# Altium integrated library WE-CBF (rev25b).IntLib: 156 symbols (part 2 of 3)
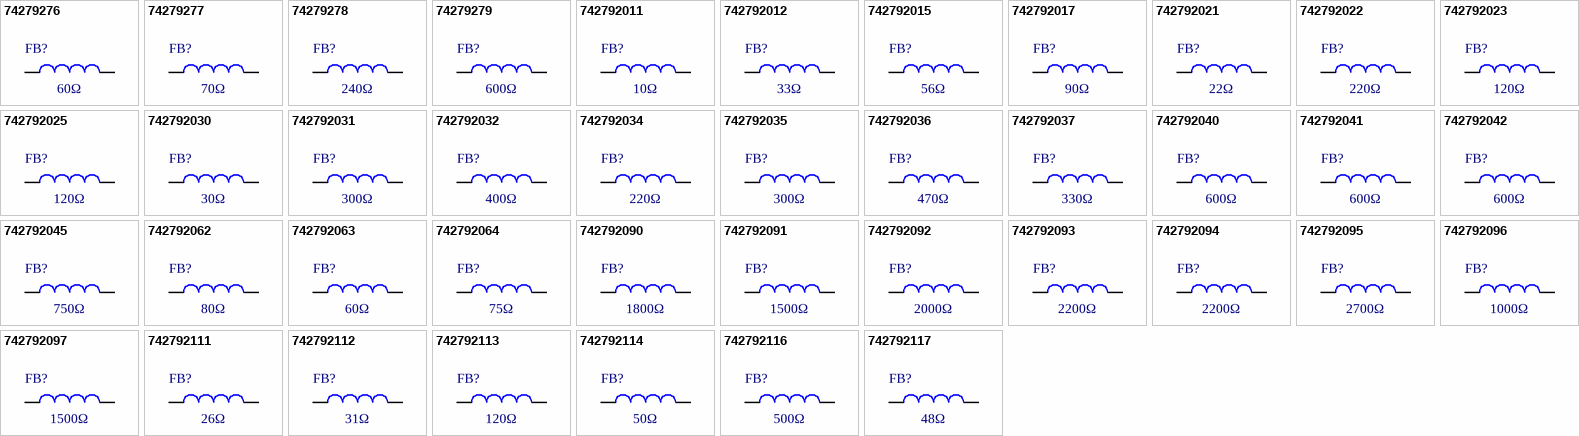
[diagram p4: symbols 74279276 to 742792117]

## 742792035
designator FB?, comment 300Ω
WE-CBF SMT EMI Suppression Ferrite Bead, size 0805, 300Ω, 2.3A; Manufacturer Part Number: 742792035; Manufacturer: Wurth Elektronik; Case/Size Code: 0805; DC Resistance Max: 0.3Ω; Impedance Max: 450Ω; Impedance Max Test Condition: 220MHz; Type: High Speed; Category: Ferrites for PCB Assembly; Match Code: WE-CBF; ComponentLink1Description: Website Link; ComponentLink1URL: https://www.we-online.com/redexpert/article/742792035?ad; ComponentLink2Description: Datasheet Link; ComponentLink2URL: https://www.we-online.com/redexpert/spec/742792035?ad; Mount: Surface Mount; Min Operating Temperature: -55°C; Max Operating Temperature: 125°C; Packaging: Tape and Reel; Length: 2mm; Width: 1.2mm; Height: 0.9mm; Impedance @100MHz: 300Ω; Rated Current: 2.3A
footprint WE-CBF_0805_L2W1.2H0.9_HS_WB
simulation model 0805_742792035_300ohm
pins: 1, 2

## 742792036
designator FB?, comment 470Ω
WE-CBF SMT EMI Suppression Ferrite Bead, size 0805, 470Ω, 1.8A; Manufacturer Part Number: 742792036; Manufacturer: Wurth Elektronik; Case/Size Code: 0805; DC Resistance Max: 0.3Ω; Impedance Max: 560Ω; Impedance Max Test Condition: 190MHz; Type: Wide Band; Category: Ferrites for PCB Assembly; Match Code: WE-CBF; ComponentLink1Description: Website Link; ComponentLink1URL: https://www.we-online.com/redexpert/article/742792036?ad; ComponentLink2Description: Datasheet Link; ComponentLink2URL: https://www.we-online.com/redexpert/spec/742792036?ad; Mount: Surface Mount; Min Operating Temperature: -55°C; Max Operating Temperature: 125°C; Packaging: Tape and Reel; Length: 2mm; Width: 1.2mm; Height: 0.9mm; Impedance @100MHz: 470Ω; Rated Current: 1.8A
footprint WE-CBF_0805_L2W1.2H0.9_HS_WB
simulation model 0805_742792036_470ohm
pins: 1, 2

## 742792037
designator FB?, comment 330Ω
WE-CBF SMT EMI Suppression Ferrite Bead, size 0805, 330Ω, 2A; Manufacturer Part Number: 742792037; Manufacturer: Wurth Elektronik; Case/Size Code: 0805; DC Resistance Max: 0.08Ω; Impedance Max: 375Ω; Impedance Max Test Condition: 250MHz; Type: High Current; Category: Ferrites for PCB Assembly; Match Code: WE-CBF; ComponentLink1Description: Website Link; ComponentLink1URL: https://www.we-online.com/redexpert/article/742792037?ad; ComponentLink2Description: Datasheet Link; ComponentLink2URL: https://www.we-online.com/redexpert/spec/742792037?ad; Mount: Surface Mount; Min Operating Temperature: -55°C; Max Operating Temperature: 125°C; Packaging: Tape and Reel; Length: 2mm; Width: 1.2mm; Height: 0.9mm; Impedance @100MHz: 330Ω; Rated Current: 2A
footprint WE-CBF_0805_L2W1.2H0.9_HC
simulation model 0805_742792037_330ohm
pins: 1, 2

## 742792040
designator FB?, comment 600Ω
WE-CBF SMT EMI Suppression Ferrite Bead, size 0805, 600Ω, 2A; Manufacturer Part Number: 742792040; Manufacturer: Wurth Elektronik; Case/Size Code: 0805; DC Resistance Max: 0.15Ω; Impedance Max: 700Ω; Impedance Max Test Condition: 150MHz; Type: High Current; Category: Ferrites for PCB Assembly; Match Code: WE-CBF; ComponentLink1Description: Website Link; ComponentLink1URL: https://www.we-online.com/redexpert/article/742792040?ad; ComponentLink2Description: Datasheet Link; ComponentLink2URL: https://www.we-online.com/redexpert/spec/742792040?ad; Mount: Surface Mount; Min Operating Temperature: -55°C; Max Operating Temperature: 125°C; Packaging: Tape and Reel; Length: 2mm; Width: 1.2mm; Height: 0.9mm; Impedance @100MHz: 600Ω; Rated Current: 2A
footprint WE-CBF_0805_L2W1.2H0.9_HC
simulation model 0805_742792040_600ohm
pins: 1, 2

## 742792041
designator FB?, comment 600Ω
WE-CBF SMT EMI Suppression Ferrite Bead, size 0805, 600Ω, 1.5A; Manufacturer Part Number: 742792041; Manufacturer: Wurth Elektronik; Case/Size Code: 0805; DC Resistance Max: 0.4Ω; Impedance Max: 700Ω; Impedance Max Test Condition: 160MHz; Type: Wide Band; Category: Ferrites for PCB Assembly; Match Code: WE-CBF; ComponentLink1Description: Website Link; ComponentLink1URL: https://www.we-online.com/redexpert/article/742792041?ad; ComponentLink2Description: Datasheet Link; ComponentLink2URL: https://www.we-online.com/redexpert/spec/742792041?ad; Mount: Surface Mount; Min Operating Temperature: -55°C; Max Operating Temperature: 125°C; Packaging: Tape and Reel; Length: 2mm; Width: 1.2mm; Height: 0.9mm; Impedance @100MHz: 600Ω; Rated Current: 1.5A
footprint WE-CBF_0805_L2W1.2H0.9_HS_WB
simulation model 0805_742792041_600ohm
pins: 1, 2

## 742792042
designator FB?, comment 600Ω
WE-CBF SMT EMI Suppression Ferrite Bead, size 0805, 600Ω, 0.9A; Manufacturer Part Number: 742792042; Manufacturer: Wurth Elektronik; Case/Size Code: 0805; DC Resistance Max: 0.5Ω; Impedance Max: 3000Ω; Impedance Max Test Condition: 180MHz; Type: High Speed; Category: Ferrites for PCB Assembly; Match Code: WE-CBF; ComponentLink1Description: Website Link; ComponentLink1URL: https://www.we-online.com/redexpert/article/742792042?ad; ComponentLink2Description: Datasheet Link; ComponentLink2URL: https://www.we-online.com/redexpert/spec/742792042?ad; Mount: Surface Mount; Min Operating Temperature: -55°C; Max Operating Temperature: 125°C; Packaging: Tape and Reel; Length: 2mm; Width: 1.2mm; Height: 0.9mm; Impedance @100MHz: 600Ω; Rated Current: 0.9A
footprint WE-CBF_0805_L2W1.2H0.9_HS_WB
simulation model 0805_742792042_600ohm
pins: 1, 2

## 742792045
designator FB?, comment 750Ω
WE-CBF SMT EMI Suppression Ferrite Bead, size 0805, 750Ω, 0.9A; Manufacturer Part Number: 742792045; Manufacturer: Wurth Elektronik; Case/Size Code: 0805; DC Resistance Max: 0.3Ω; Impedance Max: 1000Ω; Impedance Max Test Condition: 180MHz; Type: High Speed; Category: Ferrites for PCB Assembly; Match Code: WE-CBF; ComponentLink1Description: Website Link; ComponentLink1URL: https://www.we-online.com/redexpert/article/742792045?ad; ComponentLink2Description: Datasheet Link; ComponentLink2URL: https://www.we-online.com/redexpert/spec/742792045?ad; Mount: Surface Mount; Min Operating Temperature: -55°C; Max Operating Temperature: 125°C; Packaging: Tape and Reel; Length: 2mm; Width: 1.2mm; Height: 0.9mm; Impedance @100MHz: 750Ω; Rated Current: 0.9A
footprint WE-CBF_0805_L2W1.2H0.9_HS_WB
simulation model 0805_742792045_750ohm
pins: 1, 2

## 742792062
designator FB?, comment 80Ω
WE-CBF SMT EMI Suppression Ferrite Bead, size 0805, 80Ω, 3.1A; Manufacturer Part Number: 742792062; Manufacturer: Wurth Elektronik; Case/Size Code: 0805; DC Resistance Max: 0.2Ω; Impedance Max: 200Ω; Impedance Max Test Condition: 400MHz; Type: Wide Band; Category: Ferrites for PCB Assembly; Match Code: WE-CBF; ComponentLink1Description: Website Link; ComponentLink1URL: https://www.we-online.com/redexpert/article/742792062?ad; ComponentLink2Description: Datasheet Link; ComponentLink2URL: https://www.we-online.com/redexpert/spec/742792062?ad; Mount: Surface Mount; Min Operating Temperature: -55°C; Max Operating Temperature: 125°C; Packaging: Tape and Reel; Length: 2mm; Width: 1.2mm; Height: 0.9mm; Impedance @100MHz: 80Ω; Rated Current: 3.1A
footprint WE-CBF_0805_L2W1.2H0.9_HS_WB
simulation model 0805_742792062_80ohm
pins: 1, 2

## 742792063
designator FB?, comment 60Ω
WE-CBF SMT EMI Suppression Ferrite Bead, size 0805, 60Ω, 3A; Manufacturer Part Number: 742792063; Manufacturer: Wurth Elektronik; Case/Size Code: 0805; DC Resistance Max: 0.025Ω; Impedance Max: 90Ω; Impedance Max Test Condition: 500MHz; Type: High Current; Category: Ferrites for PCB Assembly; Match Code: WE-CBF; ComponentLink1Description: Website Link; ComponentLink1URL: https://www.we-online.com/redexpert/article/742792063?ad; ComponentLink2Description: Datasheet Link; ComponentLink2URL: https://www.we-online.com/redexpert/spec/742792063?ad; Mount: Surface Mount; Min Operating Temperature: -55°C; Max Operating Temperature: 125°C; Packaging: Tape and Reel; Length: 2mm; Width: 1.2mm; Height: 0.9mm; Impedance @100MHz: 60Ω; Rated Current: 3A
footprint WE-CBF_0805_L2W1.2H0.9_HC
simulation model 0805_742792063_60ohm
pins: 1, 2

## 742792064
designator FB?, comment 75Ω
WE-CBF SMT EMI Suppression Ferrite Bead, size 0805, 75Ω, 1.7A; Manufacturer Part Number: 742792064; Manufacturer: Wurth Elektronik; Case/Size Code: 0805; DC Resistance Max: 0.2Ω; Impedance Max: 300Ω; Impedance Max Test Condition: 500MHz; Type: High Speed; Category: Ferrites for PCB Assembly; Match Code: WE-CBF; ComponentLink1Description: Website Link; ComponentLink1URL: https://www.we-online.com/redexpert/article/742792064?ad; ComponentLink2Description: Datasheet Link; ComponentLink2URL: https://www.we-online.com/redexpert/spec/742792064?ad; Mount: Surface Mount; Min Operating Temperature: -55°C; Max Operating Temperature: 125°C; Packaging: Tape and Reel; Length: 2mm; Width: 1.2mm; Height: 0.9mm; Impedance @100MHz: 75Ω; Rated Current: 1.7A
footprint WE-CBF_0805_L2W1.2H0.9_HS_WB
simulation model 0805_742792064_75ohm
pins: 1, 2

## 742792090
designator FB?, comment 1800Ω
WE-CBF SMT EMI Suppression Ferrite Bead, size 0805, 1800Ω, 1A; Manufacturer Part Number: 742792090; Manufacturer: Wurth Elektronik; Case/Size Code: 0805; DC Resistance Max: 0.4Ω; Impedance Max: 2000Ω; Impedance Max Test Condition: 120MHz; Type: Wide Band; Category: Ferrites for PCB Assembly; Match Code: WE-CBF; ComponentLink1Description: Website Link; ComponentLink1URL: https://www.we-online.com/redexpert/article/742792090?ad; ComponentLink2Description: Datasheet Link; ComponentLink2URL: https://www.we-online.com/redexpert/spec/742792090?ad; Mount: Surface Mount; Min Operating Temperature: -55°C; Max Operating Temperature: 125°C; Packaging: Tape and Reel; Length: 2mm; Width: 1.2mm; Height: 0.9mm; Impedance @100MHz: 1800Ω; Rated Current: 1A
footprint WE-CBF_0805_L2W1.2H0.9_HS_WB
simulation model 0805_742792090_1800ohm
pins: 1, 2

## 742792091
designator FB?, comment 1500Ω
WE-CBF SMT EMI Suppression Ferrite Bead, size 0805, 1500Ω, 1A; Manufacturer Part Number: 742792091; Manufacturer: Wurth Elektronik; Case/Size Code: 0805; DC Resistance Max: 0.55Ω; Impedance Max Test Condition: 100MHz; Type: Wide Band; Category: Ferrites for PCB Assembly; Match Code: WE-CBF; ComponentLink1Description: Website Link; ComponentLink1URL: https://www.we-online.com/redexpert/article/742792091?ad; ComponentLink2Description: Datasheet Link; ComponentLink2URL: https://www.we-online.com/redexpert/spec/742792091?ad; Mount: Surface Mount; Min Operating Temperature: -55°C; Max Operating Temperature: 125°C; Packaging: Tape and Reel; Length: 2mm; Width: 1.2mm; Height: 0.9mm; Impedance @100MHz: 1500Ω; Impedance Max: 1500Ω; Rated Current: 1A
footprint WE-CBF_0805_L2W1.2H0.9_HS_WB
simulation model 0805_742792091_1500ohm
pins: 1, 2

## 742792092
designator FB?, comment 2000Ω
WE-CBF SMT EMI Suppression Ferrite Bead, size 0805, 2000Ω, 0.8A; Manufacturer Part Number: 742792092; Manufacturer: Wurth Elektronik; Case/Size Code: 0805; DC Resistance Max: 0.6Ω; Impedance Max Test Condition: 100MHz; Type: Wide Band; Category: Ferrites for PCB Assembly; Match Code: WE-CBF; ComponentLink1Description: Website Link; ComponentLink1URL: https://www.we-online.com/redexpert/article/742792092?ad; ComponentLink2Description: Datasheet Link; ComponentLink2URL: https://www.we-online.com/redexpert/spec/742792092?ad; Mount: Surface Mount; Min Operating Temperature: -55°C; Max Operating Temperature: 125°C; Packaging: Tape and Reel; Length: 2mm; Width: 1.2mm; Height: 0.9mm; Impedance @100MHz: 2000Ω; Impedance Max: 2000Ω; Rated Current: 0.8A
footprint WE-CBF_0805_L2W1.2H0.9_HS_WB
simulation model 0805_742792092_2000ohm
pins: 1, 2

## 742792093
designator FB?, comment 2200Ω
WE-CBF SMT EMI Suppression Ferrite Bead, size 0805, 2200Ω, 0.8A; Manufacturer Part Number: 742792093; Manufacturer: Wurth Elektronik; Case/Size Code: 0805; DC Resistance Max: 0.6Ω; Impedance Max: 3000Ω; Impedance Max Test Condition: 80MHz; Type: Wide Band; Category: Ferrites for PCB Assembly; Match Code: WE-CBF; ComponentLink1Description: Website Link; ComponentLink1URL: https://www.we-online.com/redexpert/article/742792093?ad; ComponentLink2Description: Datasheet Link; ComponentLink2URL: https://www.we-online.com/redexpert/spec/742792093?ad; Mount: Surface Mount; Min Operating Temperature: -55°C; Max Operating Temperature: 125°C; Packaging: Tape and Reel; Length: 2mm; Width: 1.2mm; Height: 0.9mm; Impedance @100MHz: 2200Ω; Rated Current: 0.8A
footprint WE-CBF_0805_L2W1.2H0.9_HS_WB
simulation model 0805_742792093_2200ohm
pins: 1, 2

## 742792094
designator FB?, comment 2200Ω
WE-CBF SMT EMI Suppression Ferrite Bead, size 0805, 2200Ω, 1A; Manufacturer Part Number: 742792094; Manufacturer: Wurth Elektronik; Case/Size Code: 0805; DC Resistance Max: 0.5Ω; Impedance Max Test Condition: 100MHz; Type: Wide Band; Category: Ferrites for PCB Assembly; Match Code: WE-CBF; ComponentLink1Description: Website Link; ComponentLink1URL: https://www.we-online.com/redexpert/article/742792094?ad; ComponentLink2Description: Datasheet Link; ComponentLink2URL: https://www.we-online.com/redexpert/spec/742792094?ad; Mount: Surface Mount; Min Operating Temperature: -55°C; Max Operating Temperature: 125°C; Packaging: Tape and Reel; Length: 2mm; Width: 1.2mm; Height: 0.9mm; Impedance @100MHz: 2200Ω; Impedance Max: 2200Ω; Rated Current: 1A
footprint WE-CBF_0805_L2W1.2H0.9_HS_WB
simulation model 0805_742792094_2200ohm
pins: 1, 2

## 742792095
designator FB?, comment 2700Ω
WE-CBF SMT EMI Suppression Ferrite Bead, size 0805, 2700Ω, 1A; Manufacturer Part Number: 742792095; Manufacturer: Wurth Elektronik; Case/Size Code: 0805; DC Resistance Max: 0.6Ω; Impedance Max Test Condition: 100MHz; Type: Wide Band; Category: Ferrites for PCB Assembly; Match Code: WE-CBF; ComponentLink1Description: Website Link; ComponentLink1URL: https://www.we-online.com/redexpert/article/742792095?ad; ComponentLink2Description: Datasheet Link; ComponentLink2URL: https://www.we-online.com/redexpert/spec/742792095?ad; Mount: Surface Mount; Min Operating Temperature: -55°C; Max Operating Temperature: 125°C; Packaging: Tape and Reel; Length: 2mm; Width: 1.2mm; Height: 0.9mm; Impedance @100MHz: 2700Ω; Impedance Max: 2700Ω; Rated Current: 1A
footprint WE-CBF_0805_L2W1.2H0.9_HS_WB
simulation model 0805_742792095_2700ohm
pins: 1, 2

## 742792096
designator FB?, comment 1000Ω
WE-CBF SMT EMI Suppression Ferrite Bead, size 0805, 1000Ω, 1A; Manufacturer Part Number: 742792096; Manufacturer: Wurth Elektronik; Case/Size Code: 0805; DC Resistance Max: 0.3Ω; Impedance Max Test Condition: 100MHz; Type: High Current; Category: Ferrites for PCB Assembly; Match Code: WE-CBF; ComponentLink1Description: Website Link; ComponentLink1URL: https://www.we-online.com/redexpert/article/742792096?ad; ComponentLink2Description: Datasheet Link; ComponentLink2URL: https://www.we-online.com/redexpert/spec/742792096?ad; Mount: Surface Mount; Min Operating Temperature: -55°C; Max Operating Temperature: 125°C; Packaging: Tape and Reel; Length: 2mm; Width: 1.2mm; Height: 0.9mm; Impedance @100MHz: 1000Ω; Impedance Max: 1000Ω; Rated Current: 1A
footprint WE-CBF_0805_L2W1.2H0.9_HC
simulation model 0805_742792096_1000ohm
pins: 1, 2

## 742792097
designator FB?, comment 1500Ω
WE-CBF SMT EMI Suppression Ferrite Bead, size 0805, 1500Ω, 1A; Manufacturer Part Number: 742792097; Manufacturer: Wurth Elektronik; Case/Size Code: 0805; DC Resistance Max: 0.3Ω; Impedance Max: 1800Ω; Impedance Max Test Condition: 70MHz; Type: High Current; Category: Ferrites for PCB Assembly; Match Code: WE-CBF; ComponentLink1Description: Website Link; ComponentLink1URL: https://www.we-online.com/redexpert/article/742792097?ad; ComponentLink2Description: Datasheet Link; ComponentLink2URL: https://www.we-online.com/redexpert/spec/742792097?ad; Mount: Surface Mount; Min Operating Temperature: -55°C; Max Operating Temperature: 125°C; Packaging: Tape and Reel; Length: 2mm; Width: 1.2mm; Height: 0.9mm; Impedance @100MHz: 1500Ω; Rated Current: 1A
footprint WE-CBF_0805_L2W1.2H0.9_HC
simulation model 0805_742792097_1500ohm
pins: 1, 2

## 742792111
designator FB?, comment 26Ω
WE-CBF SMT EMI Suppression Ferrite Bead, size 1206, 26Ω, 3A; Manufacturer Part Number: 742792111; Manufacturer: Wurth Elektronik; Case/Size Code: 1206; DC Resistance Max: 0.04Ω; Impedance Max: 40Ω; Impedance Max Test Condition: 1000MHz; Type: High Current; Category: Ferrites for PCB Assembly; Match Code: WE-CBF; ComponentLink1Description: Website Link; ComponentLink1URL: https://www.we-online.com/redexpert/article/742792111?ad; ComponentLink2Description: Datasheet Link; ComponentLink2URL: https://www.we-online.com/redexpert/spec/742792111?ad; Mount: Surface Mount; Min Operating Temperature: -55°C; Max Operating Temperature: 125°C; Packaging: Tape and Reel; Length: 3.2mm; Width: 1.6mm; Height: 1.1mm; Impedance @100MHz: 26Ω; Rated Current: 3A
footprint WE-CBF_1206_L3.2W1.6H1.1_HC
simulation model 1206_742792111_26ohm
pins: 1, 2

## 742792112
designator FB?, comment 31Ω
WE-CBF SMT EMI Suppression Ferrite Bead, size 1206, 31Ω, 3A; Manufacturer Part Number: 742792112; Manufacturer: Wurth Elektronik; Case/Size Code: 1206; DC Resistance Max: 0.04Ω; Impedance Max: 52Ω; Impedance Max Test Condition: 1000MHz; Type: High Current; Category: Ferrites for PCB Assembly; Match Code: WE-CBF; ComponentLink1Description: Website Link; ComponentLink1URL: https://www.we-online.com/redexpert/article/742792112?ad; ComponentLink2Description: Datasheet Link; ComponentLink2URL: https://www.we-online.com/redexpert/spec/742792112?ad; Mount: Surface Mount; Min Operating Temperature: -55°C; Max Operating Temperature: 125°C; Packaging: Tape and Reel; Length: 3.2mm; Width: 1.6mm; Height: 1.1mm; Impedance @100MHz: 31Ω; Rated Current: 3A
footprint WE-CBF_1206_L3.2W1.6H1.1_HC
simulation model 1206_742792112_31ohm
pins: 1, 2

## 742792113
designator FB?, comment 120Ω
WE-CBF SMT EMI Suppression Ferrite Bead, size 1206, 120Ω, 3A; Manufacturer Part Number: 742792113; Manufacturer: Wurth Elektronik; Case/Size Code: 1206; DC Resistance Max: 0.03Ω; Impedance Max: 180Ω; Impedance Max Test Condition: 500MHz; Type: High Current; Category: Ferrites for PCB Assembly; Match Code: WE-CBF; ComponentLink1Description: Website Link; ComponentLink1URL: https://www.we-online.com/redexpert/article/742792113?ad; ComponentLink2Description: Datasheet Link; ComponentLink2URL: https://www.we-online.com/redexpert/spec/742792113?ad; Mount: Surface Mount; Min Operating Temperature: -55°C; Max Operating Temperature: 125°C; Packaging: Tape and Reel; Length: 3.2mm; Width: 1.6mm; Height: 1.1mm; Impedance @100MHz: 120Ω; Rated Current: 3A
footprint WE-CBF_1206_L3.2W1.6H1.1_HC
simulation model 1206_742792113_120ohm
pins: 1, 2

## 742792114
designator FB?, comment 50Ω
WE-CBF SMT EMI Suppression Ferrite Bead, size 1206, 50Ω, 3A; Manufacturer Part Number: 742792114; Manufacturer: Wurth Elektronik; Case/Size Code: 1206; DC Resistance Max: 0.025Ω; Impedance Max: 82Ω; Impedance Max Test Condition: 1000MHz; Type: High Current; Category: Ferrites for PCB Assembly; Match Code: WE-CBF; ComponentLink1Description: Website Link; ComponentLink1URL: https://www.we-online.com/redexpert/article/742792114?ad; ComponentLink2Description: Datasheet Link; ComponentLink2URL: https://www.we-online.com/redexpert/spec/742792114?ad; Mount: Surface Mount; Min Operating Temperature: -55°C; Max Operating Temperature: 125°C; Packaging: Tape and Reel; Length: 3.2mm; Width: 1.6mm; Height: 1.1mm; Impedance @100MHz: 50Ω; Rated Current: 3A
footprint WE-CBF_1206_L3.2W1.6H1.1_HC
simulation model 1206_742792114_50ohm
pins: 1, 2

## 742792116
designator FB?, comment 500Ω
WE-CBF SMT EMI Suppression Ferrite Bead, size 1206, 500Ω, 2.5A; Manufacturer Part Number: 742792116; Manufacturer: Wurth Elektronik; Case/Size Code: 1206; DC Resistance Max: 0.06Ω; Impedance Max: 610Ω; Impedance Max Test Condition: 150MHz; Type: High Current; Category: Ferrites for PCB Assembly; Match Code: WE-CBF; ComponentLink1Description: Website Link; ComponentLink1URL: https://www.we-online.com/redexpert/article/742792116?ad; ComponentLink2Description: Datasheet Link; ComponentLink2URL: https://www.we-online.com/redexpert/spec/742792116?ad; Mount: Surface Mount; Min Operating Temperature: -55°C; Max Operating Temperature: 125°C; Packaging: Tape and Reel; Length: 3.2mm; Width: 1.6mm; Height: 1.1mm; Impedance @100MHz: 500Ω; Rated Current: 2.5A
footprint WE-CBF_1206_L3.2W1.6H1.1_HC
simulation model 1206_742792116_500ohm
pins: 1, 2

## 742792117
designator FB?, comment 48Ω
WE-CBF SMT EMI Suppression Ferrite Bead, size 1206, 48Ω, 6A; Manufacturer Part Number: 742792117; Manufacturer: Wurth Elektronik; Case/Size Code: 1206; DC Resistance Max: 0.005Ω; Impedance Max: 90Ω; Impedance Max Test Condition: 600MHz; Type: High Current; Category: Ferrites for PCB Assembly; Match Code: WE-CBF; ComponentLink1Description: Website Link; ComponentLink1URL: https://www.we-online.com/redexpert/article/742792117?ad; ComponentLink2Description: Datasheet Link; ComponentLink2URL: https://www.we-online.com/redexpert/spec/742792117?ad; Mount: Surface Mount; Min Operating Temperature: -55°C; Max Operating Temperature: 125°C; Packaging: Tape and Reel; Length: 3.2mm; Width: 1.6mm; Height: 1.1mm; Impedance @100MHz: 48Ω; Rated Current: 6A
footprint WE-CBF_1206_L3.2W1.6H1.1_HC
simulation model 1206_742792117_48ohm
pins: 1, 2

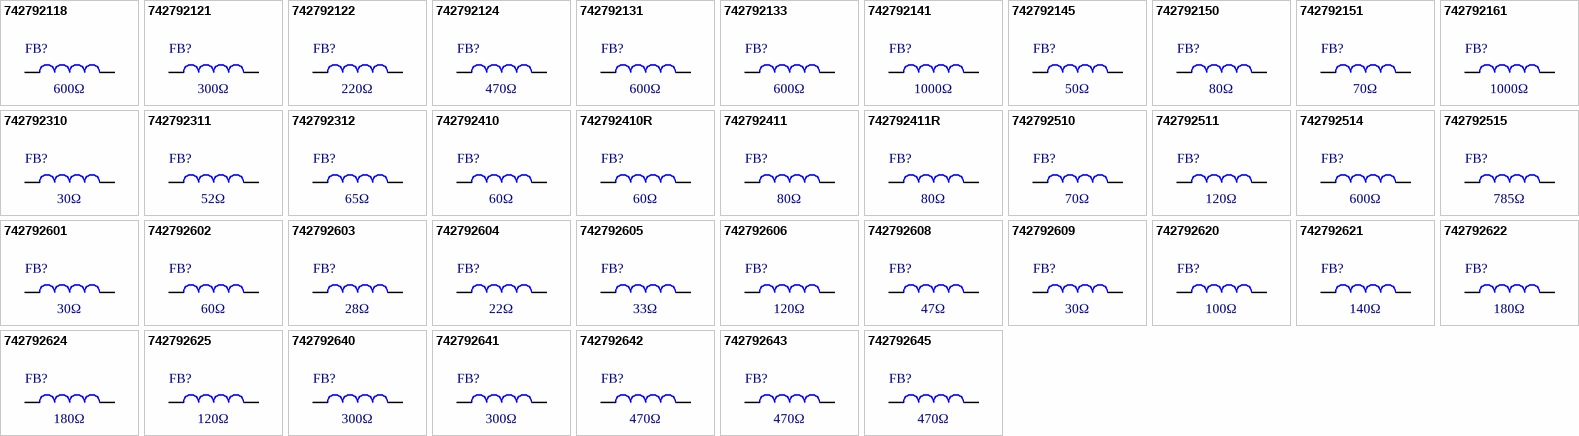
[diagram p2: symbols 742792118 to 742792645]

## 742792118
designator FB?, comment 600Ω
WE-CBF SMT EMI Suppression Ferrite Bead, size 1206, 600Ω, 2.5A; Manufacturer Part Number: 742792118; Manufacturer: Wurth Elektronik; Case/Size Code: 1206; DC Resistance Max: 0.07Ω; Impedance Max: 650Ω; Impedance Max Test Condition: 80MHz; Type: High Current; Category: Ferrites for PCB Assembly; Match Code: WE-CBF; ComponentLink1Description: Website Link; ComponentLink1URL: https://www.we-online.com/redexpert/article/742792118?ad; ComponentLink2Description: Datasheet Link; ComponentLink2URL: https://www.we-online.com/redexpert/spec/742792118?ad; Mount: Surface Mount; Min Operating Temperature: -55°C; Max Operating Temperature: 125°C; Packaging: Tape and Reel; Length: 3.2mm; Width: 1.6mm; Height: 1.1mm; Impedance @100MHz: 600Ω; Rated Current: 2.5A
footprint WE-CBF_1206_L3.2W1.6H1.1_HC
simulation model 1206_742792118_600ohm
pins: 1, 2

## 742792121
designator FB?, comment 300Ω
WE-CBF SMT EMI Suppression Ferrite Bead, size 1206, 300Ω, 3A; Manufacturer Part Number: 742792121; Manufacturer: Wurth Elektronik; Case/Size Code: 1206; DC Resistance Max: 0.06Ω; Impedance Max: 330Ω; Impedance Max Test Condition: 110MHz; Type: High Current; Category: Ferrites for PCB Assembly; Match Code: WE-CBF; ComponentLink1Description: Website Link; ComponentLink1URL: https://www.we-online.com/redexpert/article/742792121?ad; ComponentLink2Description: Datasheet Link; ComponentLink2URL: https://www.we-online.com/redexpert/spec/742792121?ad; Mount: Surface Mount; Min Operating Temperature: -55°C; Max Operating Temperature: 125°C; Packaging: Tape and Reel; Length: 3.2mm; Width: 1.6mm; Height: 1.1mm; Impedance @100MHz: 300Ω; Rated Current: 3A
footprint WE-CBF_1206_L3.2W1.6H1.1_HC
simulation model 1206_742792121_300ohm
pins: 1, 2

## 742792122
designator FB?, comment 220Ω
WE-CBF SMT EMI Suppression Ferrite Bead, size 1206, 220Ω, 3A; Manufacturer Part Number: 742792122; Manufacturer: Wurth Elektronik; Case/Size Code: 1206; DC Resistance Max: 0.3Ω; Impedance Max: 240Ω; Impedance Max Test Condition: 200MHz; Type: High Speed; Category: Ferrites for PCB Assembly; Match Code: WE-CBF; ComponentLink1Description: Website Link; ComponentLink1URL: https://www.we-online.com/redexpert/article/742792122?ad; ComponentLink2Description: Datasheet Link; ComponentLink2URL: https://www.we-online.com/redexpert/spec/742792122?ad; Mount: Surface Mount; Min Operating Temperature: -55°C; Max Operating Temperature: 125°C; Packaging: Tape and Reel; Length: 3.2mm; Width: 1.6mm; Height: 1.1mm; Impedance @100MHz: 220Ω; Rated Current: 3A
footprint WE-CBF_1206_L3.2W1.6H1.1_HS_WB
simulation model 1206_742792122_220ohm
pins: 1, 2

## 742792124
designator FB?, comment 470Ω
WE-CBF SMT EMI Suppression Ferrite Bead, size 1206, 470Ω, 2.7A; Manufacturer Part Number: 742792124; Manufacturer: Wurth Elektronik; Case/Size Code: 1206; DC Resistance Max: 0.3Ω; Impedance Max: 500Ω; Impedance Max Test Condition: 140MHz; Type: Wide Band; Category: Ferrites for PCB Assembly; Match Code: WE-CBF; ComponentLink1Description: Website Link; ComponentLink1URL: https://www.we-online.com/redexpert/article/742792124?ad; ComponentLink2Description: Datasheet Link; ComponentLink2URL: https://www.we-online.com/redexpert/spec/742792124?ad; Mount: Surface Mount; Min Operating Temperature: -55°C; Max Operating Temperature: 125°C; Packaging: Tape and Reel; Length: 3.2mm; Width: 1.6mm; Height: 1.1mm; Impedance @100MHz: 470Ω; Rated Current: 2.7A
footprint WE-CBF_1206_L3.2W1.6H1.1_HS_WB
simulation model 1206_742792124_470ohm
pins: 1, 2

## 742792131
designator FB?, comment 600Ω
WE-CBF SMT EMI Suppression Ferrite Bead, size 1206, 600Ω, 2.6A; Manufacturer Part Number: 742792131; Manufacturer: Wurth Elektronik; Case/Size Code: 1206; DC Resistance Max: 0.3Ω; Impedance Max: 630Ω; Impedance Max Test Condition: 90MHz; Type: Wide Band; Category: Ferrites for PCB Assembly; Match Code: WE-CBF; ComponentLink1Description: Website Link; ComponentLink1URL: https://www.we-online.com/redexpert/article/742792131?ad; ComponentLink2Description: Datasheet Link; ComponentLink2URL: https://www.we-online.com/redexpert/spec/742792131?ad; Mount: Surface Mount; Min Operating Temperature: -55°C; Max Operating Temperature: 125°C; Packaging: Tape and Reel; Length: 3.2mm; Width: 1.6mm; Height: 1.1mm; Impedance @100MHz: 600Ω; Rated Current: 2.6A
footprint WE-CBF_1206_L3.2W1.6H1.1_HS_WB
simulation model 1206_742792131_600ohm
pins: 1, 2

## 742792133
designator FB?, comment 600Ω
WE-CBF SMT EMI Suppression Ferrite Bead, size 1206, 600Ω, 2.5A; Manufacturer Part Number: 742792133; Manufacturer: Wurth Elektronik; Case/Size Code: 1206; DC Resistance Max: 0.3Ω; Impedance Max: 750Ω; Impedance Max Test Condition: 60MHz; Type: Wide Band; Category: Ferrites for PCB Assembly; Match Code: WE-CBF; ComponentLink1Description: Website Link; ComponentLink1URL: https://www.we-online.com/redexpert/article/742792133?ad; ComponentLink2Description: Datasheet Link; ComponentLink2URL: https://www.we-online.com/redexpert/spec/742792133?ad; Mount: Surface Mount; Min Operating Temperature: -55°C; Max Operating Temperature: 125°C; Packaging: Tape and Reel; Length: 3.2mm; Width: 1.6mm; Height: 1.1mm; Impedance @100MHz: 600Ω; Rated Current: 2.5A
footprint WE-CBF_1206_L3.2W1.6H1.1_HS_WB
simulation model 1206_742792133_600ohm
pins: 1, 2

## 742792141
designator FB?, comment 1000Ω
WE-CBF SMT EMI Suppression Ferrite Bead, size 1206, 1000Ω, 1A; Manufacturer Part Number: 742792141; Manufacturer: Wurth Elektronik; Case/Size Code: 1206; DC Resistance Max: 0.3Ω; Impedance Max: 1100Ω; Impedance Max Test Condition: 90MHz; Type: High Current; Category: Ferrites for PCB Assembly; Match Code: WE-CBF; ComponentLink1Description: Website Link; ComponentLink1URL: https://www.we-online.com/redexpert/article/742792141?ad; ComponentLink2Description: Datasheet Link; ComponentLink2URL: https://www.we-online.com/redexpert/spec/742792141?ad; Mount: Surface Mount; Min Operating Temperature: -55°C; Max Operating Temperature: 125°C; Packaging: Tape and Reel; Length: 3.2mm; Width: 1.6mm; Height: 1.1mm; Impedance @100MHz: 1000Ω; Rated Current: 1A
footprint WE-CBF_1206_L3.2W1.6H1.1_HC
simulation model 1206_742792141_1000ohm
pins: 1, 2

## 742792145
designator FB?, comment 50Ω
WE-CBF SMT EMI Suppression Ferrite Bead, size 1206, 50Ω, 12A; Manufacturer Part Number: 742792145; Manufacturer: Wurth Elektronik; Case/Size Code: 1206; DC Resistance Max: 0.0019Ω; Impedance Max: 67Ω; Impedance Max Test Condition: 830MHz; Type: High Current; Category: Ferrites for PCB Assembly; Match Code: WE-CBF; ComponentLink1Description: Website Link; ComponentLink1URL: https://www.we-online.com/redexpert/article/742792145?ad; ComponentLink2Description: Datasheet Link; ComponentLink2URL: https://www.we-online.com/redexpert/spec/742792145?ad; Mount: Surface Mount; Min Operating Temperature: -55°C; Max Operating Temperature: 125°C; Packaging: Tape and Reel; Length: 3.2mm; Width: 1.6mm; Height: 1.1mm; Impedance @100MHz: 50Ω; Rated Current: 12A
footprint WE-CBF_1206_L3.2W1.6H1.1_HC
pins: 1, 2

## 742792150
designator FB?, comment 80Ω
WE-CBF SMT EMI Suppression Ferrite Bead, size 1206, 80Ω, 4A; Manufacturer Part Number: 742792150; Manufacturer: Wurth Elektronik; Case/Size Code: 1206; DC Resistance Max: 0.02Ω; Impedance Max: 160Ω; Impedance Max Test Condition: 550MHz; Type: High Current; Category: Ferrites for PCB Assembly; Match Code: WE-CBF; ComponentLink1Description: Website Link; ComponentLink1URL: https://www.we-online.com/redexpert/article/742792150?ad; ComponentLink2Description: Datasheet Link; ComponentLink2URL: https://www.we-online.com/redexpert/spec/742792150?ad; Mount: Surface Mount; Min Operating Temperature: -55°C; Max Operating Temperature: 125°C; Packaging: Tape and Reel; Length: 3.2mm; Width: 1.6mm; Height: 1.1mm; Impedance @100MHz: 80Ω; Rated Current: 4A
footprint WE-CBF_1206_L3.2W1.6H1.1_HC
simulation model 1206_742792150_80ohm
pins: 1, 2

## 742792151
designator FB?, comment 70Ω
WE-CBF SMT EMI Suppression Ferrite Bead, size 1206, 70Ω, 2.5A; Manufacturer Part Number: 742792151; Manufacturer: Wurth Elektronik; Case/Size Code: 1206; DC Resistance Max: 0.3Ω; Impedance Max: 105Ω; Impedance Max Test Condition: 600MHz; Type: High Speed; Category: Ferrites for PCB Assembly; Match Code: WE-CBF; ComponentLink1Description: Website Link; ComponentLink1URL: https://www.we-online.com/redexpert/article/742792151?ad; ComponentLink2Description: Datasheet Link; ComponentLink2URL: https://www.we-online.com/redexpert/spec/742792151?ad; Mount: Surface Mount; Min Operating Temperature: -55°C; Max Operating Temperature: 125°C; Packaging: Tape and Reel; Length: 3.2mm; Width: 1.6mm; Height: 1.1mm; Impedance @100MHz: 70Ω; Rated Current: 2.5A
footprint WE-CBF_1206_L3.2W1.6H1.1_HS_WB
simulation model 1206_742792151_70ohm
pins: 1, 2

## 742792161
designator FB?, comment 1000Ω
WE-CBF SMT EMI Suppression Ferrite Bead, size 1206, 1000Ω, 1.1A; Manufacturer Part Number: 742792161; Manufacturer: Wurth Elektronik; Case/Size Code: 1206; DC Resistance Max: 0.5Ω; Impedance Max: 1500Ω; Impedance Max Test Condition: 50MHz; Type: Wide Band; Category: Ferrites for PCB Assembly; Match Code: WE-CBF; ComponentLink1Description: Website Link; ComponentLink1URL: https://www.we-online.com/redexpert/article/742792161?ad; ComponentLink2Description: Datasheet Link; ComponentLink2URL: https://www.we-online.com/redexpert/spec/742792161?ad; Mount: Surface Mount; Min Operating Temperature: -55°C; Max Operating Temperature: 125°C; Packaging: Tape and Reel; Length: 3.2mm; Width: 1.6mm; Height: 1.1mm; Impedance @100MHz: 1000Ω; Rated Current: 1.1A
footprint WE-CBF_1206_L3.2W1.6H1.1_HS_WB
simulation model 1206_742792161_1000ohm
pins: 1, 2

## 742792310
designator FB?, comment 30Ω
WE-CBF SMT EMI Suppression Ferrite Bead, size 1210, 30Ω, 3A; Manufacturer Part Number: 742792310; Manufacturer: Wurth Elektronik; Case/Size Code: 1210; DC Resistance Max: 0.05Ω; Impedance Max: 50Ω; Impedance Max Test Condition: 900MHz; Type: High Current; Category: Ferrites for PCB Assembly; Match Code: WE-CBF; ComponentLink1Description: Website Link; ComponentLink1URL: https://www.we-online.com/redexpert/article/742792310?ad; ComponentLink2Description: Datasheet Link; ComponentLink2URL: https://www.we-online.com/redexpert/spec/742792310?ad; Mount: Surface Mount; Min Operating Temperature: -55°C; Max Operating Temperature: 125°C; Packaging: Tape and Reel; Length: 3.2mm; Width: 2.5mm; Height: 1.3mm; Impedance @100MHz: 30Ω; Rated Current: 3A
footprint WE-CBF_1210_L3.2W2.5H1.3_HC
simulation model 1210_742792310_30ohm
pins: 1, 2

## 742792311
designator FB?, comment 52Ω
WE-CBF SMT EMI Suppression Ferrite Bead, size 1210, 52Ω, 3A; Manufacturer Part Number: 742792311; Manufacturer: Wurth Elektronik; Case/Size Code: 1210; DC Resistance Max: 0.05Ω; Impedance Max: 90Ω; Impedance Max Test Condition: 1000MHz; Type: High Current; Category: Ferrites for PCB Assembly; Match Code: WE-CBF; ComponentLink1Description: Website Link; ComponentLink1URL: https://www.we-online.com/redexpert/article/742792311?ad; ComponentLink2Description: Datasheet Link; ComponentLink2URL: https://www.we-online.com/redexpert/spec/742792311?ad; Mount: Surface Mount; Min Operating Temperature: -55°C; Max Operating Temperature: 125°C; Packaging: Tape and Reel; Length: 3.2mm; Width: 2.5mm; Height: 1.3mm; Impedance @100MHz: 52Ω; Rated Current: 3A
footprint WE-CBF_1210_L3.2W2.5H1.3_HC
simulation model 1210_742792311_52ohm
pins: 1, 2

## 742792312
designator FB?, comment 65Ω
WE-CBF SMT EMI Suppression Ferrite Bead, size 1210, 65Ω, 3A; Manufacturer Part Number: 742792312; Manufacturer: Wurth Elektronik; Case/Size Code: 1210; DC Resistance Max: 0.03Ω; Impedance Max: 110Ω; Impedance Max Test Condition: 1000MHz; Type: High Current; Category: Ferrites for PCB Assembly; Match Code: WE-CBF; ComponentLink1Description: Website Link; ComponentLink1URL: https://www.we-online.com/redexpert/article/742792312?ad; ComponentLink2Description: Datasheet Link; ComponentLink2URL: https://www.we-online.com/redexpert/spec/742792312?ad; Mount: Surface Mount; Min Operating Temperature: -55°C; Max Operating Temperature: 125°C; Packaging: Tape and Reel; Length: 3.2mm; Width: 2.5mm; Height: 1.3mm; Impedance @100MHz: 65Ω; Rated Current: 3A
footprint WE-CBF_1210_L3.2W2.5H1.3_HC
simulation model 1210_742792312_65ohm
pins: 1, 2

## 742792410
designator FB?, comment 60Ω
WE-CBF SMT EMI Suppression Ferrite Bead, size 1806, 60Ω, 6A; Manufacturer Part Number: 742792410; Manufacturer: Wurth Elektronik; Case/Size Code: 1806; DC Resistance Max: 0.01Ω; Impedance Max: 120Ω; Impedance Max Test Condition: 1000MHz; Type: High Current; Category: Ferrites for PCB Assembly; Match Code: WE-CBF; ComponentLink1Description: Website Link; ComponentLink1URL: https://www.we-online.com/redexpert/article/742792410?ad; ComponentLink2Description: Datasheet Link; ComponentLink2URL: https://www.we-online.com/redexpert/spec/742792410?ad; Mount: Surface Mount; Min Operating Temperature: -55°C; Max Operating Temperature: 125°C; Packaging: Tape and Reel; Length: 4.5mm; Width: 1.6mm; Height: 1.6mm; Impedance @100MHz: 60Ω; Rated Current: 6A
footprint WE-CBF_1806_L4.5W1.6H1.6_HC
simulation model 1806_742792410_60ohm
pins: 1, 2

## 742792410R
designator FB?, comment 60Ω
WE-CBF SMT EMI Suppression Ferrite Bead, size 1806, 60Ω, 6A; Manufacturer Part Number: 742792410R; Manufacturer: Wurth Elektronik; Case/Size Code: 1806; DC Resistance Max: 0.01Ω; Impedance Max: 120Ω; Impedance Max Test Condition: 1000MHz; Type: High Current; Category: Ferrites for PCB Assembly; Match Code: WE-CBF; ComponentLink1Description: Website Link; ComponentLink1URL: https://www.we-online.com/redexpert/article/742792410R?ad; ComponentLink2Description: Datasheet Link; ComponentLink2URL: https://www.we-online.com/redexpert/spec/742792410R?ad; Mount: Surface Mount; Min Operating Temperature: -55°C; Max Operating Temperature: 125°C; Packaging: Tape and Reel; Length: 4.5mm; Width: 1.6mm; Height: 1.6mm; Impedance @100MHz: 60Ω; Rated Current: 6A
footprint WE-CBF_1806_L4.5W1.6H1.6_HC
pins: 1, 2

## 742792411
designator FB?, comment 80Ω
WE-CBF SMT EMI Suppression Ferrite Bead, size 1806, 80Ω, 3A; Manufacturer Part Number: 742792411; Manufacturer: Wurth Elektronik; Case/Size Code: 1806; DC Resistance Max: 0.04Ω; Impedance Max: 140Ω; Impedance Max Test Condition: 1000MHz; Type: High Current; Category: Ferrites for PCB Assembly; Match Code: WE-CBF; ComponentLink1Description: Website Link; ComponentLink1URL: https://www.we-online.com/redexpert/article/742792411?ad; ComponentLink2Description: Datasheet Link; ComponentLink2URL: https://www.we-online.com/redexpert/spec/742792411?ad; Mount: Surface Mount; Min Operating Temperature: -55°C; Max Operating Temperature: 125°C; Packaging: Tape and Reel; Length: 4.5mm; Width: 1.6mm; Height: 1.6mm; Impedance @100MHz: 80Ω; Rated Current: 3A
footprint WE-CBF_1806_L4.5W1.6H1.6_HC
simulation model 1806_742792411_80ohm
pins: 1, 2

## 742792411R
designator FB?, comment 80Ω
WE-CBF SMT EMI Suppression Ferrite Bead, size 1806, 80Ω, 3A; Manufacturer Part Number: 742792411R; Manufacturer: Wurth Elektronik; Case/Size Code: 1806; DC Resistance Max: 0.04Ω; Impedance Max: 140Ω; Impedance Max Test Condition: 1000MHz; Type: High Current; Category: Ferrites for PCB Assembly; Match Code: WE-CBF; ComponentLink1Description: Website Link; ComponentLink1URL: https://www.we-online.com/redexpert/article/742792411R?ad; ComponentLink2Description: Datasheet Link; ComponentLink2URL: https://www.we-online.com/redexpert/spec/742792411R?ad; Mount: Surface Mount; Min Operating Temperature: -55°C; Max Operating Temperature: 125°C; Packaging: Tape and Reel; Length: 4.5mm; Width: 1.6mm; Height: 1.6mm; Impedance @100MHz: 80Ω; Rated Current: 3A
footprint WE-CBF_1806_L4.5W1.6H1.6_HC
pins: 1, 2

## 742792510
designator FB?, comment 70Ω
WE-CBF SMT EMI Suppression Ferrite Bead, size 1812, 70Ω, 6A; Manufacturer Part Number: 742792510; Manufacturer: Wurth Elektronik; Case/Size Code: 1812; DC Resistance Max: 0.03Ω; Impedance Max: 120Ω; Impedance Max Test Condition: 1000MHz; Type: High Current; Category: Ferrites for PCB Assembly; Match Code: WE-CBF; ComponentLink1Description: Website Link; ComponentLink1URL: https://www.we-online.com/redexpert/article/742792510?ad; ComponentLink2Description: Datasheet Link; ComponentLink2URL: https://www.we-online.com/redexpert/spec/742792510?ad; Mount: Surface Mount; Min Operating Temperature: -55°C; Max Operating Temperature: 125°C; Packaging: Tape and Reel; Length: 4.5mm; Width: 3.2mm; Height: 1.5mm; Impedance @100MHz: 70Ω; Rated Current: 6A
footprint WE-CBF_1812_L4.5W3.2H1.5_HC
simulation model 1812_742792510_70ohm
pins: 1, 2

## 742792511
designator FB?, comment 120Ω
WE-CBF SMT EMI Suppression Ferrite Bead, size 1812, 120Ω, 3A; Manufacturer Part Number: 742792511; Manufacturer: Wurth Elektronik; Case/Size Code: 1812; DC Resistance Max: 0.05Ω; Impedance Max: 190Ω; Impedance Max Test Condition: 600MHz; Type: High Current; Category: Ferrites for PCB Assembly; Match Code: WE-CBF; ComponentLink1Description: Website Link; ComponentLink1URL: https://www.we-online.com/redexpert/article/742792511?ad; ComponentLink2Description: Datasheet Link; ComponentLink2URL: https://www.we-online.com/redexpert/spec/742792511?ad; Mount: Surface Mount; Min Operating Temperature: -55°C; Max Operating Temperature: 125°C; Packaging: Tape and Reel; Length: 4.5mm; Width: 3.2mm; Height: 1.5mm; Impedance @100MHz: 120Ω; Rated Current: 3A
footprint WE-CBF_1812_L4.5W3.2H1.5_HC
simulation model 1812_742792511_120ohm
pins: 1, 2

## 742792514
designator FB?, comment 600Ω
WE-CBF SMT EMI Suppression Ferrite Bead, size 1812, 600Ω, 3A; Manufacturer Part Number: 742792514; Manufacturer: Wurth Elektronik; Case/Size Code: 1812; DC Resistance Max: 0.04Ω; Impedance Max: 900Ω; Impedance Max Test Condition: 65MHz; Type: High Current; Category: Ferrites for PCB Assembly; Match Code: WE-CBF; ComponentLink1Description: Website Link; ComponentLink1URL: https://www.we-online.com/redexpert/article/742792514?ad; ComponentLink2Description: Datasheet Link; ComponentLink2URL: https://www.we-online.com/redexpert/spec/742792514?ad; Mount: Surface Mount; Min Operating Temperature: -55°C; Max Operating Temperature: 125°C; Packaging: Tape and Reel; Length: 4.5mm; Width: 3.2mm; Height: 1.5mm; Impedance @100MHz: 600Ω; Rated Current: 3A
footprint WE-CBF_1812_L4.5W3.2H1.5_HC
simulation model 1812_742792514_600ohm
pins: 1, 2

## 742792515
designator FB?, comment 785Ω
WE-CBF SMT EMI Suppression Ferrite Bead, size 1812, 785Ω, 3A; Manufacturer Part Number: 742792515; Manufacturer: Wurth Elektronik; Case/Size Code: 1812; DC Resistance Max: 0.05Ω; Impedance Max: 1300Ω; Impedance Max Test Condition: 60MHz; Type: High Current; Category: Ferrites for PCB Assembly; Match Code: WE-CBF; ComponentLink1Description: Website Link; ComponentLink1URL: https://www.we-online.com/redexpert/article/742792515?ad; ComponentLink2Description: Datasheet Link; ComponentLink2URL: https://www.we-online.com/redexpert/spec/742792515?ad; Mount: Surface Mount; Min Operating Temperature: -55°C; Max Operating Temperature: 125°C; Packaging: Tape and Reel; Length: 4.5mm; Width: 3.2mm; Height: 1.5mm; Impedance @100MHz: 785Ω; Rated Current: 3A
footprint WE-CBF_1812_L4.5W3.2H1.5_HC
simulation model 1812_742792515_785ohm
pins: 1, 2

## 742792601
designator FB?, comment 30Ω
WE-CBF SMT EMI Suppression Ferrite Bead, size 0603, 30Ω, 1A; Manufacturer Part Number: 742792601; Manufacturer: Wurth Elektronik; Case/Size Code: 0603; DC Resistance Max: 0.03Ω; Impedance Max: 65Ω; Impedance Max Test Condition: 1000MHz; Type: High Current; Category: Ferrites for PCB Assembly; Match Code: WE-CBF; ComponentLink1Description: Website Link; ComponentLink1URL: https://www.we-online.com/redexpert/article/742792601?ad; ComponentLink2Description: Datasheet Link; ComponentLink2URL: https://www.we-online.com/redexpert/spec/742792601?ad; Mount: Surface Mount; Min Operating Temperature: -55°C; Max Operating Temperature: 125°C; Packaging: Tape and Reel; Length: 1.6mm; Width: 0.8mm; Height: 0.8mm; Impedance @100MHz: 30Ω; Rated Current: 1A
footprint WE-CBF_0603_L1.6W0.8H0.8_HC
simulation model 0603_742792601_30ohm
pins: 1, 2

## 742792602
designator FB?, comment 60Ω
WE-CBF SMT EMI Suppression Ferrite Bead, size 0603, 60Ω, 3A; Manufacturer Part Number: 742792602; Manufacturer: Wurth Elektronik; Case/Size Code: 0603; DC Resistance Max: 0.04Ω; Impedance Max: 110Ω; Impedance Max Test Condition: 600MHz; Type: High Current; Category: Ferrites for PCB Assembly; Match Code: WE-CBF; ComponentLink1Description: Website Link; ComponentLink1URL: https://www.we-online.com/redexpert/article/742792602?ad; ComponentLink2Description: Datasheet Link; ComponentLink2URL: https://www.we-online.com/redexpert/spec/742792602?ad; Mount: Surface Mount; Min Operating Temperature: -55°C; Max Operating Temperature: 125°C; Packaging: Tape and Reel; Length: 1.6mm; Width: 0.8mm; Height: 0.8mm; Impedance @100MHz: 60Ω; Rated Current: 3A
footprint WE-CBF_0603_L1.6W0.8H0.8_HC
simulation model 0603_742792602_60ohm
pins: 1, 2

## 742792603
designator FB?, comment 28Ω
WE-CBF SMT EMI Suppression Ferrite Bead, size 0603, 28Ω, 4A; Manufacturer Part Number: 742792603; Manufacturer: Wurth Elektronik; Case/Size Code: 0603; DC Resistance Max: 0.03Ω; Impedance Max: 45Ω; Impedance Max Test Condition: 1000MHz; Type: High Current; Category: Ferrites for PCB Assembly; Match Code: WE-CBF; ComponentLink1Description: Website Link; ComponentLink1URL: https://www.we-online.com/redexpert/article/742792603?ad; ComponentLink2Description: Datasheet Link; ComponentLink2URL: https://www.we-online.com/redexpert/spec/742792603?ad; Mount: Surface Mount; Min Operating Temperature: -55°C; Max Operating Temperature: 125°C; Packaging: Tape and Reel; Length: 1.6mm; Width: 0.8mm; Height: 0.8mm; Impedance @100MHz: 28Ω; Rated Current: 4A
footprint WE-CBF_0603_L1.6W0.8H0.8_HC
simulation model 0603_742792603_28ohm
pins: 1, 2

## 742792604
designator FB?, comment 22Ω
WE-CBF SMT EMI Suppression Ferrite Bead, size 0603, 22Ω, 1A; Manufacturer Part Number: 742792604; Manufacturer: Wurth Elektronik; Case/Size Code: 0603; DC Resistance Max: 0.05Ω; Impedance Max: 40Ω; Impedance Max Test Condition: 1000MHz; Type: High Current; Category: Ferrites for PCB Assembly; Match Code: WE-CBF; ComponentLink1Description: Website Link; ComponentLink1URL: https://www.we-online.com/redexpert/article/742792604?ad; ComponentLink2Description: Datasheet Link; ComponentLink2URL: https://www.we-online.com/redexpert/spec/742792604?ad; Mount: Surface Mount; Min Operating Temperature: -55°C; Max Operating Temperature: 125°C; Packaging: Tape and Reel; Length: 1.6mm; Width: 0.8mm; Height: 0.8mm; Impedance @100MHz: 22Ω; Rated Current: 1A
footprint WE-CBF_0603_L1.6W0.8H0.8_HC
simulation model 0603_742792604_22ohm
pins: 1, 2

## 742792605
designator FB?, comment 33Ω
WE-CBF SMT EMI Suppression Ferrite Bead, size 0603, 33Ω, 2.2A; Manufacturer Part Number: 742792605; Manufacturer: Wurth Elektronik; Case/Size Code: 0603; DC Resistance Max: 0.1Ω; Impedance Max: 50Ω; Impedance Max Test Condition: 1000MHz; Type: High Speed; Category: Ferrites for PCB Assembly; Match Code: WE-CBF; ComponentLink1Description: Website Link; ComponentLink1URL: https://www.we-online.com/redexpert/article/742792605?ad; ComponentLink2Description: Datasheet Link; ComponentLink2URL: https://www.we-online.com/redexpert/spec/742792605?ad; Mount: Surface Mount; Min Operating Temperature: -55°C; Max Operating Temperature: 125°C; Packaging: Tape and Reel; Length: 1.6mm; Width: 0.8mm; Height: 0.8mm; Impedance @100MHz: 33Ω; Rated Current: 2.2A
footprint WE-CBF_0603_L1.6W0.8H0.8_HS_WB
simulation model 0603_742792605_33ohm
pins: 1, 2

## 742792606
designator FB?, comment 120Ω
WE-CBF SMT EMI Suppression Ferrite Bead, size 0603, 120Ω, 1.6A; Manufacturer Part Number: 742792606; Manufacturer: Wurth Elektronik; Case/Size Code: 0603; DC Resistance Max: 0.35Ω; Impedance Max: 388Ω; Impedance Max Test Condition: 550MHz; Type: High Speed; Category: Ferrites for PCB Assembly; Match Code: WE-CBF; ComponentLink1Description: Website Link; ComponentLink1URL: https://www.we-online.com/redexpert/article/742792606?ad; ComponentLink2Description: Datasheet Link; ComponentLink2URL: https://www.we-online.com/redexpert/spec/742792606?ad; Mount: Surface Mount; Min Operating Temperature: -55°C; Max Operating Temperature: 125°C; Packaging: Tape and Reel; Length: 1.6mm; Width: 0.8mm; Height: 0.8mm; Impedance @100MHz: 120Ω; Rated Current: 1.6A
footprint WE-CBF_0603_L1.6W0.8H0.8_HS_WB
simulation model 0603_742792606_120ohm
pins: 1, 2

## 742792608
designator FB?, comment 47Ω
WE-CBF SMT EMI Suppression Ferrite Bead, size 0603, 47Ω, 1.3A; Manufacturer Part Number: 742792608; Manufacturer: Wurth Elektronik; Case/Size Code: 0603; DC Resistance Max: 0.1Ω; Impedance Max: 75Ω; Impedance Max Test Condition: 1000MHz; Type: High Speed; Category: Ferrites for PCB Assembly; Match Code: WE-CBF; ComponentLink1Description: Website Link; ComponentLink1URL: https://www.we-online.com/redexpert/article/742792608?ad; ComponentLink2Description: Datasheet Link; ComponentLink2URL: https://www.we-online.com/redexpert/spec/742792608?ad; Mount: Surface Mount; Min Operating Temperature: -55°C; Max Operating Temperature: 125°C; Packaging: Tape and Reel; Length: 1.6mm; Width: 0.8mm; Height: 0.8mm; Impedance @100MHz: 47Ω; Rated Current: 1.3A
footprint WE-CBF_0603_L1.6W0.8H0.8_HS_WB
simulation model 0603_742792608_47ohm
pins: 1, 2

## 742792609
designator FB?, comment 30Ω
WE-CBF SMT EMI Suppression Ferrite Bead, size 0603, 30Ω, 3A; Manufacturer Part Number: 742792609; Manufacturer: Wurth Elektronik; Case/Size Code: 0603; DC Resistance Max: 0.04Ω; Impedance Max: 40Ω; Impedance Max Test Condition: 1000MHz; Type: High Current; Category: Ferrites for PCB Assembly; Match Code: WE-CBF; ComponentLink1Description: Website Link; ComponentLink1URL: https://www.we-online.com/redexpert/article/742792609?ad; ComponentLink2Description: Datasheet Link; ComponentLink2URL: https://www.we-online.com/redexpert/spec/742792609?ad; Mount: Surface Mount; Min Operating Temperature: -55°C; Max Operating Temperature: 125°C; Packaging: Tape and Reel; Length: 1.6mm; Width: 0.8mm; Height: 0.8mm; Impedance @100MHz: 30Ω; Rated Current: 3A
footprint WE-CBF_0603_L1.6W0.8H0.8_HC
simulation model 0603_742792609_30ohm
pins: 1, 2

## 742792620
designator FB?, comment 100Ω
WE-CBF SMT EMI Suppression Ferrite Bead, size 0603, 100Ω, 1.65A; Manufacturer Part Number: 742792620; Manufacturer: Wurth Elektronik; Case/Size Code: 0603; DC Resistance Max: 0.15Ω; Impedance Max: 125Ω; Impedance Max Test Condition: 450MHz; Type: Wide Band; Category: Ferrites for PCB Assembly; Match Code: WE-CBF; ComponentLink1Description: Website Link; ComponentLink1URL: https://www.we-online.com/redexpert/article/742792620?ad; ComponentLink2Description: Datasheet Link; ComponentLink2URL: https://www.we-online.com/redexpert/spec/742792620?ad; Mount: Surface Mount; Min Operating Temperature: -55°C; Max Operating Temperature: 125°C; Packaging: Tape and Reel; Length: 1.6mm; Width: 0.8mm; Height: 0.8mm; Impedance @100MHz: 100Ω; Rated Current: 1.65A
footprint WE-CBF_0603_L1.6W0.8H0.8_HS_WB
simulation model 0603_742792620_100ohm
pins: 1, 2

## 742792621
designator FB?, comment 140Ω
WE-CBF SMT EMI Suppression Ferrite Bead, size 0603, 140Ω, 1.25A; Manufacturer Part Number: 742792621; Manufacturer: Wurth Elektronik; Case/Size Code: 0603; DC Resistance Max: 0.2Ω; Impedance Max: 430Ω; Impedance Max Test Condition: 550MHz; Type: High Speed; Category: Ferrites for PCB Assembly; Match Code: WE-CBF; ComponentLink1Description: Website Link; ComponentLink1URL: https://www.we-online.com/redexpert/article/742792621?ad; ComponentLink2Description: Datasheet Link; ComponentLink2URL: https://www.we-online.com/redexpert/spec/742792621?ad; Mount: Surface Mount; Min Operating Temperature: -55°C; Max Operating Temperature: 125°C; Packaging: Tape and Reel; Length: 1.6mm; Width: 0.8mm; Height: 0.8mm; Impedance @100MHz: 140Ω; Rated Current: 1.25A
footprint WE-CBF_0603_L1.6W0.8H0.8_HS_WB
simulation model 0603_742792621_140ohm
pins: 1, 2